# Altium footprint library Deutsch 6 Pin.PcbLib: 1 footprints
Each footprint in its own frame and in the unit in brackets; x right, y up, seen from the top. Pads: shape width x height; smd on the part's side, far side on the other; paste and mask are expansions set on the pad; w line width, h text height; cw(c..) or ccw(c..) is an arc to the next point about the centre after c.
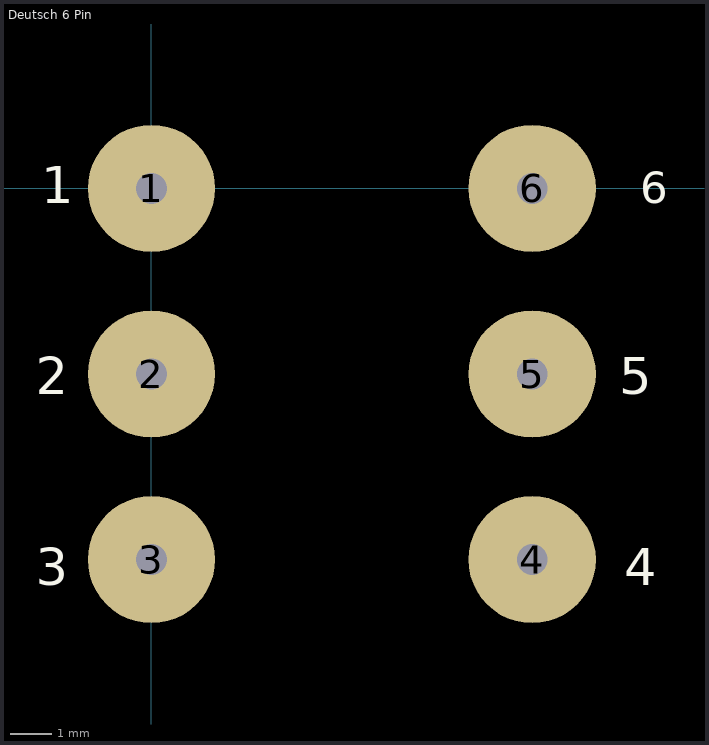
[diagram p0: the footprint, top view; thin cyan lines are the x and y axes]

## Deutsch 6 Pin [mil]
pads (6):
  round 120 hole 29: 1(0,0) 2(0,-175) 3(0,-350) 4(359,-350) 5(359,-175) 6(359,0)
Top Overlay:
  text "1" at -104,-14 h35
  text "2" at -109,-194 h35
  text "3" at -109,-374 h35
  text "4" at 446,-374 h35
  text "5" at 441,-194 h35
  text "6" at 461,-14 h30
3D body: height 1108, standoff -200, extent -65,-415 65,-285
3D body: height 1108, standoff -200, extent 294,-240 424,-110
3D body: height 1108, standoff -200, extent 294,-415 424,-285
3D body: height 1108, standoff -200, extent 294,-65 424,65
3D body: height 1108, standoff -200, extent -65,-240 65,-110
3D body: height 1108, standoff -200, extent -65,-65 65,65